# Altium footprint library Nano.PcbLib: 1 footprints
Each footprint in its own frame and in the unit in brackets; x right, y up, seen from the top. Pads: shape width x height; smd on the part's side, far side on the other; paste and mask are expansions set on the pad; w line width, h text height; cw(c..) or ccw(c..) is an arc to the next point about the centre after c.
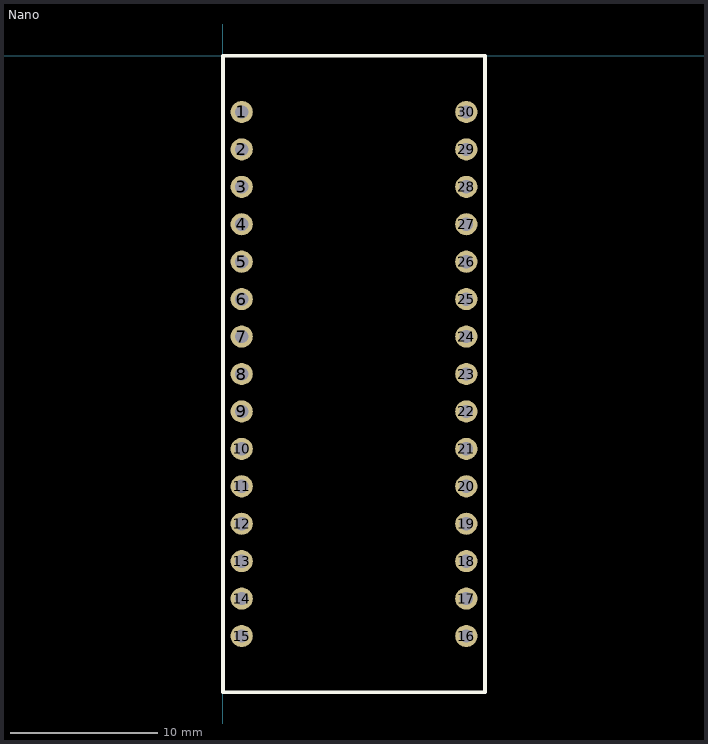
[diagram p0: the footprint, top view; thin cyan lines are the x and y axes]

## Nano [mm]
pads (30):
  round 1.5 hole 0.9: 1(1.27,-3.81) 2(1.27,-6.35) 3(1.27,-8.89) 4(1.27,-11.43) 5(1.27,-13.97) 6(1.27,-16.51) 7(1.27,-19.05) 8(1.27,-21.59) 9(1.27,-24.13) 10(1.27,-26.67) 11(1.27,-29.21) 12(1.27,-31.75) 13(1.27,-34.29) 14(1.27,-36.83) 15(1.27,-39.37) 16(16.51,-39.37) 17(16.51,-36.83) 18(16.51,-34.29) 19(16.51,-31.75) 20(16.51,-29.21) 21(16.51,-26.67) 22(16.51,-24.13) 23(16.51,-21.59) 24(16.51,-19.05) 25(16.51,-16.51) 26(16.51,-13.97) 27(16.51,-11.43) 28(16.51,-8.89) 29(16.51,-6.35) 30(16.51,-3.81)
Top Overlay:
  lines w0.254: 0,-43.18 0,0 17.78,0 17.78,-43.18 0,-43.18